# Altium schematic symbol library MC0603B104K250CT.SchLib: 1 symbol
Pins are listed as number, name and electrical type; pins without a type are passive.

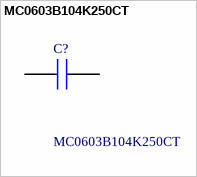
[diagram p0: symbol MC0603B104K250CT]

## MC0603B104K250CT
designator C?
MULTICOMP - MC0603B104K250CT - CAP, MLCC, X7R, 100NF, 25V, 0603, REEL; Manufacturer_Name: Multicomp Pro; Geometry.Height: 0.87mm; Farnell Part Number: *; Farnell Price/Stock: *; Manufacturer_Part_Number: MC0603B104K250CT; Datasheet Link: *
footprint CAPC1608X87N
pins: 1, 2